# Altium schematic symbol library smoothieboard-5driver.SCHLIB: 81 symbols
Pins are listed as number, name and electrical type; pins without a type are passive.

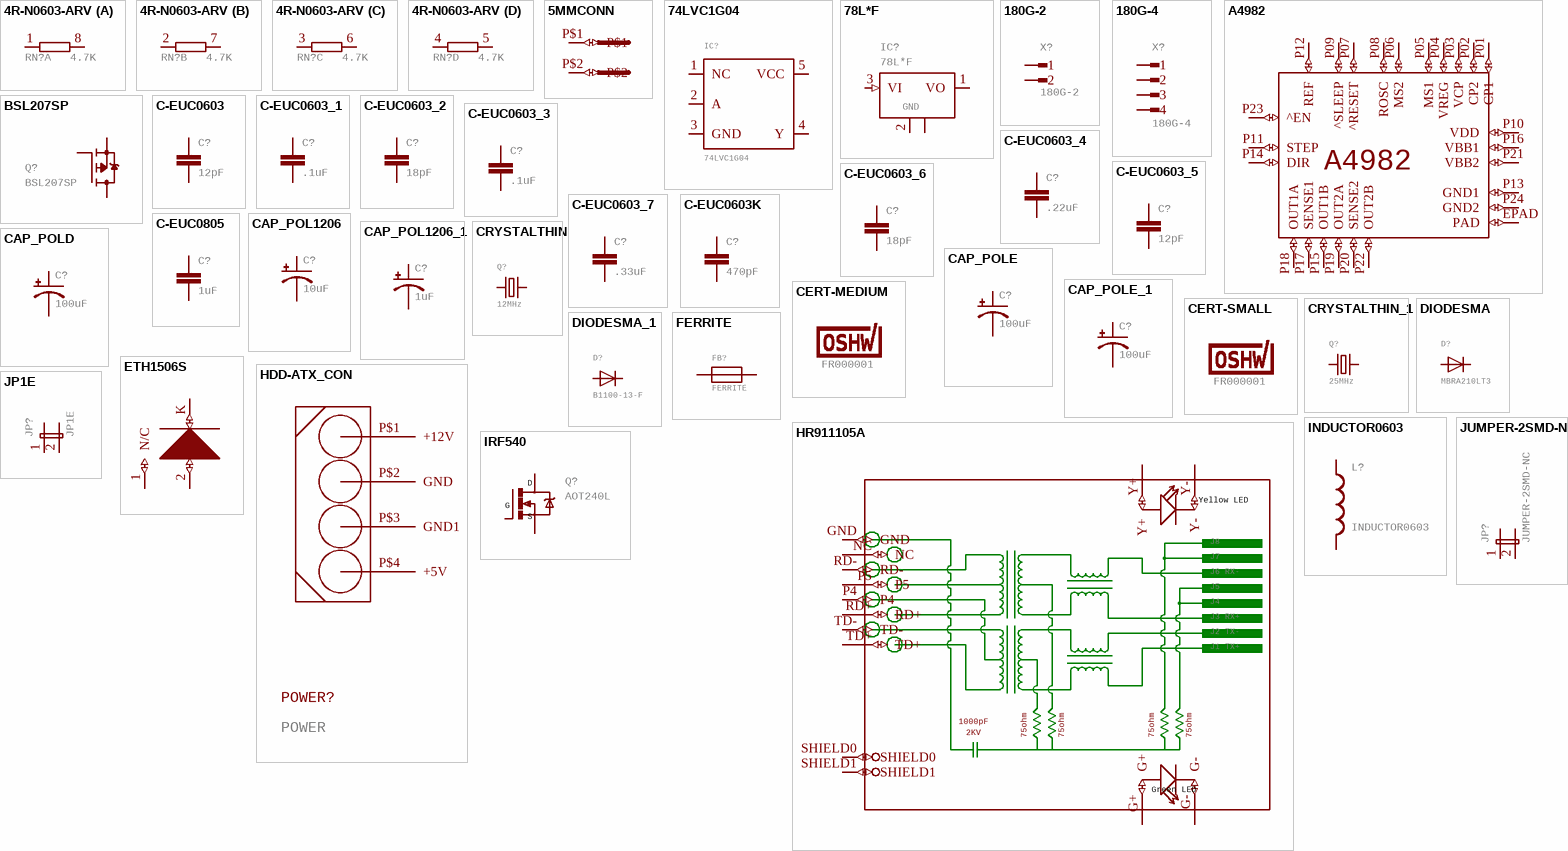
[diagram p0: symbols 4R-N0603-ARV to JUMPER-2SMD-NC]

## 4R-N0603-ARV
designator RN?, comment 4.7K
Array Chip Resistor   Source: RS Component / Phycomp; GateName_1: A; SymbolName_1: R1NV; GateName_2: B; GateName_3: C; GateName_4: D; DeviceName: 0603-ARV; DeviceSetName: 4R-N; SymbolName_2: R1NV; SymbolName_3: R1NV; SymbolName_4: R1NV; LibraryName: resistor-dil; MF: MF; MPN: MPN; OC_FARNELL: unknown; OC_NEWARK: unknown
footprint 0603-ARV
part A pins: 1, 8 2
part B pins: 2 1, 7 2
part C pins: 3 1, 6 2
part D pins: 4 1, 5 2

## 5MMCONN
designator U$?  (value not drawn)
GateName_1: G$1; SymbolName_1: JUMPER; LibraryName: eric_sorensen; DeviceSetName: 5MMCONN
footprint 1715250000
pins: P$1 (io), P$2 (io)

## 74LVC1G04
designator IC?
74LVC1G04 - Single Inverter Gate    SOT23-5 SN74LVC1G04DBVR - Digikey: 296-11599-1-ND; GateName_1: G$1; SymbolName_1: 74LVC1G04; LibraryName: microbuilder; DeviceSetName: 74LVC1G04
footprint SOT23-5
pins: 1 NC, 2 A (io), 3 GND (power), 4 Y (io), 5 VCC (power)

## 78L*F
designator IC?
POSITOIV-VOLTAGE REGULATORS   Output up to 100 mASource: http://focus.ti.com/lit/ds/symlink/ua78l05.pdf; GateName_1: G$1; SymbolName_1: 78XX2GND; DeviceName: F; DeviceSetName: 78L*; LibraryName: linear; GND: GND
footprint SOT89
pins: 1 VO, 2 GND, 2@1 GND, 3 VI (in)

## 180G-2
designator X?
WEIDMUELLER CLAMP CONNECTOR; GateName_1: G$1; SymbolName_1: MALE-2; LibraryName: con-weidmueller-sl35; DeviceSetName: 180G-2; MF: MF; MPN: MPN; OC_FARNELL: unknown; OC_NEWARK: unknown
footprint 180G-2
pins: 1, 2

## 180G-4
designator X?
WEIDMUELLER CLAMP CONNECTOR; GateName_1: G$1; SymbolName_1: MALE-4; LibraryName: con-weidmueller-sl35; DeviceSetName: 180G-4; MF: MF; MPN: MPN; OC_FARNELL: unknown; OC_NEWARK: unknown
footprint 180G-4
pins: 1, 2, 3, 4

## A4982
designator IC?, comment A5984  (value not drawn)
GateName_1: G$1; SymbolName_1: A4982; LibraryName: A4982; DeviceSetName: A4982; A4982: A4982
footprint ETSSOP24
pins: EPAD PAD (io), P01 CP1 (io), P02 CP2 (io), P03 VCP (io), P04 VREG (io), P05 MS1 (io), P06 MS2 (io), P07 ^RESET (io), P08 ROSC (io), P09 ^SLEEP (io), P10 VDD (io), P11 STEP (io), P12 REF (io), P13 GND1 (io), P14 DIR (io), P15 OUT1B (io), P16 VBB1 (io), P17 SENSE1 (io), P18 OUT1A (io), P19 OUT2A (io), P20 SENSE2 (io), P21 VBB2 (io), P22 OUT2B (io), P23 ^EN (io), P24 GND2 (io)

## BSL207SP
designator Q?
OptiMOS(R)-P Small-Signal-Transistor P-Channel, Enhancement mode, Super Logic Level (2.5 V rated)   Source: http://www.infineon.com/upload/Document/BSL207SP_Rev2.01.pdf; GateName_1: G$1; SymbolName_1: P-MOSFET; LibraryName: transistor-fet; DeviceSetName: BSL207SP
footprint SC74_INFINEON
pins: 1 2 5 6 D, 3 G, 4 S

## C-EUC0603
designator C?, comment 12pF
CAPACITOR, European symbol; GateName_1: G$1; SymbolName_1: C-EU; DeviceName: C0603; LibraryName: rcl; DeviceSetName: C-EU
footprint C0603
pins: 1, 2

## C-EUC0603_1
designator C?, comment .1uF
CAPACITOR, European symbol; GateName_1: G$1; SymbolName_1: C-EU; DeviceName: C0603; LibraryName: rcl; DeviceSetName: C-EU
footprint C0603
pins: 1, 2

## C-EUC0603_2
designator C?, comment 18pF
CAPACITOR, European symbol; GateName_1: G$1; SymbolName_1: C-EU; DeviceName: C0603; LibraryName: rcl; DeviceSetName: C-EU
footprint C0603
pins: 1, 2

## C-EUC0603_3
designator C?, comment .1uF
CAPACITOR, European symbol; GateName_1: G$1; SymbolName_1: C-EU; DeviceName: C0603; LibraryName: resistor; DeviceSetName: C-EU
footprint C0603
pins: 1, 2

## C-EUC0603_4
designator C?, comment .22uF
CAPACITOR, European symbol; GateName_1: G$1; SymbolName_1: C-EU; DeviceName: C0603; LibraryName: rcl; DeviceSetName: C-EU
footprint C0603
pins: 1, 2

## C-EUC0603_5
designator C?, comment 12pF
CAPACITOR, European symbol; GateName_1: G$1; SymbolName_1: C-EU; DeviceName: C0603; LibraryName: resistor; DeviceSetName: C-EU
footprint C0603
pins: 1, 2

## C-EUC0603_6
designator C?, comment 18pF
CAPACITOR, European symbol; GateName_1: G$1; SymbolName_1: C-EU; DeviceName: C0603; LibraryName: resistor; DeviceSetName: C-EU
footprint C0603
pins: 1, 2

## C-EUC0603_7
designator C?, comment .33uF
CAPACITOR, European symbol; GateName_1: G$1; SymbolName_1: C-EU; DeviceName: C0603; LibraryName: rcl; DeviceSetName: C-EU
footprint C0603
pins: 1, 2

## C-EUC0603K
designator C?, comment 470pF
CAPACITOR, European symbol; GateName_1: G$1; SymbolName_1: C-EU; DeviceName: C0603K; LibraryName: resistor; DeviceSetName: C-EU
footprint C0603K
pins: 1, 2

## C-EUC0805
designator C?, comment 1uF
CAPACITOR, European symbol; GateName_1: G$1; SymbolName_1: C-EU; DeviceName: C0805; LibraryName: resistor; DeviceSetName: C-EU
footprint C0805
pins: 1, 2

## CAP_POL1206
designator C?, comment 10uF
Capacitor PolarizedThese are standard SMD and PTH capacitors. Normally 10uF, 47uF, and 100uF in electrolytic and tantalum varieties. Always verify the external diameter of the through hole cap, it varies with capacity, voltage, and manufacturer. The EIA devices should be standard.; GateName_1: G$1; SymbolName_1: CAP_POL; DeviceName: 1206; LibraryName: SparkFun; DeviceSetName: CAP_POL
footprint EIA3216
pins: A +, C -

## CAP_POL1206_1
designator C?, comment 1uF
Capacitor PolarizedThese are standard SMD and PTH capacitors. Normally 10uF, 47uF, and 100uF in electrolytic and tantalum varieties. Always verify the external diameter of the through hole cap, it varies with capacity, voltage, and manufacturer. The EIA devices should be standard.; GateName_1: G$1; SymbolName_1: CAP_POL; DeviceName: 1206; LibraryName: SparkFun; DeviceSetName: CAP_POL
footprint EIA3216
pins: A +, C -

## CAP_POLD
designator C?, comment 100uF
Capacitor PolarizedThese are standard SMD and PTH capacitors. Normally 10uF, 47uF, and 100uF in electrolytic and tantalum varieties. Always verify the external diameter of the through hole cap, it varies with capacity, voltage, and manufacturer. The EIA devices should be standard.; GateName_1: G$1; SymbolName_1: CAP_POL; DeviceName: D; LibraryName: SparkFun-Capacitors; DeviceSetName: CAP_POL
footprint PANASONIC_D
pins: +, -

## CAP_POLE
designator C?, comment 100uF
Capacitor PolarizedThese are standard SMD and PTH capacitors. Normally 10uF, 47uF, and 100uF in electrolytic and tantalum varieties. Always verify the external diameter of the through hole cap, it varies with capacity, voltage, and manufacturer. The EIA devices should be standard.; GateName_1: G$1; SymbolName_1: CAP_POL; DeviceName: E; LibraryName: SparkFun; DeviceSetName: CAP_POL
footprint PANASONIC_E
pins: +, -

## CAP_POLE_1
designator C?, comment 100uF
Capacitor PolarizedThese are standard SMD and PTH capacitors. Normally 10uF, 47uF, and 100uF in electrolytic and tantalum varieties. Always verify the external diameter of the through hole cap, it varies with capacity, voltage, and manufacturer. The EIA devices should be standard.; GateName_1: G$1; SymbolName_1: CAP_POL; DeviceName: E; LibraryName: SparkFun-Capacitors; DeviceSetName: CAP_POL
footprint PANASONIC_E
pins: +, -

## CERT-MEDIUM
designator U$?, comment FR000001
GateName_1: G$1; SymbolName_1: CERT; DeviceName: -MEDIUM; LibraryName: OSHWA; DeviceSetName: CERT
footprint CERT-MED-SILK

## CERT-SMALL
designator U$?, comment FR000001
GateName_1: G$1; SymbolName_1: CERT; DeviceName: -SMALL; LibraryName: OSHWA; DeviceSetName: CERT
footprint CERT-SMALL-SILK

## CRYSTALTHIN
designator Q?, comment 12MHz
Crystals   HC49UP - Surface Mount Crystal  4.0MHz 18pF +/-30ppm Surface Mount Crystal [Digikey: 535-9857-1-ND]  12.0 MHz Surface Mount Crystal [Digikey: 535-9869-6-ND]  25.0 MHz Surface Mount Crystal [Digikey: 535-9078-1-ND]       3.2 x 2.5mm - MEMs SMT Crystal  12.0 MHz 8pF 15ppm 3.2 x 2.5mm Crystal [Digikey: -10-70Â°C: 644-1047-1-ND -40-125Â°C: 644-1128-1-ND]  16.0 MHz 8pF 15ppm 3.2 x 2.5mm Crystal [Digikey: -10-70Â°C: 644-1049-1-ND -40-125Â°C: 644-1129-2-ND]  16.0 MHz 10pF 10ppm 3.2 x 2.5mm Crystal [Digikey: 644-1100-1-ND]  27.12 MHz 18pF 30ppm 3.2 x 2.5mm Crystal [Digikey: 887-1424-1-ND]  27.12MHz 10pF 10ppm 3.2 x 2.5mm Crystal [Digikey: 887-1329-1-ND]       4.9 x 1.8mm - MEMs SMT Crystal  32.768 KHz 12.5pF 20ppm 4.9 x 1.8mm Crystal [Digikey: SE2415CT-ND]       Cylinder 32.768KHz Cylinder Crystal; GateName_1: G$1; DeviceName: THIN; SymbolName_1: CRYSTAL; LibraryName: microbuilder; DeviceSetName: CRYSTAL
footprint CRYSTAL_3.2X2.5
pins: 1, 2

## CRYSTALTHIN_1
designator Q?, comment 25MHz
Crystals   HC49UP - Surface Mount Crystal  4.0MHz 18pF +/-30ppm Surface Mount Crystal [Digikey: 535-9857-1-ND]  12.0 MHz Surface Mount Crystal [Digikey: 535-9869-6-ND]  25.0 MHz Surface Mount Crystal [Digikey: 535-9078-1-ND]       3.2 x 2.5mm - MEMs SMT Crystal  12.0 MHz 8pF 15ppm 3.2 x 2.5mm Crystal [Digikey: -10-70Â°C: 644-1047-1-ND -40-125Â°C: 644-1128-1-ND]  16.0 MHz 8pF 15ppm 3.2 x 2.5mm Crystal [Digikey: -10-70Â°C: 644-1049-1-ND -40-125Â°C: 644-1129-2-ND]  16.0 MHz 10pF 10ppm 3.2 x 2.5mm Crystal [Digikey: 644-1100-1-ND]  27.12 MHz 18pF 30ppm 3.2 x 2.5mm Crystal [Digikey: 887-1424-1-ND]  27.12MHz 10pF 10ppm 3.2 x 2.5mm Crystal [Digikey: 887-1329-1-ND]       4.9 x 1.8mm - MEMs SMT Crystal  32.768 KHz 12.5pF 20ppm 4.9 x 1.8mm Crystal [Digikey: SE2415CT-ND]       Cylinder 32.768KHz Cylinder Crystal; GateName_1: G$1; DeviceName: THIN; SymbolName_1: CRYSTAL; LibraryName: microbuilder; DeviceSetName: CRYSTAL
footprint CRYSTAL_3.2X2.5
pins: 1, 2

## DIODESMA
designator D?, comment MBRA210LT3
Diode   SMADIODE - SMA Surface Mount Package  20V 1A Schottky Diode Digikey (500mV @ 1A, 500uA Vr @ 20V): 641-1014-6-ND  10V 2A Schottky Diode Digikey (350mV @ 2A, 700uA Vr @ 10V): MBRA210LT3    SOD-123 30V 200mA (800mV Vf, 2uA Vr @ 25V) Schottky Diode (very fast switching for boost, etc.) - Digikey: BAT54T1GOSTR-ND  30V 500mA (430mV Vf, 130uA Vr @ 30V) Schottky Diode - Digikey: B0530W-FDICT-ND  MBR120 1A 20V (0.34Vf) Schottky Diode - Digikey: MBR120VLSFT1GOSCT-ND    SOD-323 10V 570mA (380mV Vf, 3ns) Schottky Diode - Digikey: ZLLS410CT-ND  1N4148WS - 75V 150mA (1V Vf @ 10mA, 4ns) Simple Diode - Digikey: 1N4148WSFSCT-ND, Mouser: 512-1N4148WS    SOD-523 BAT54 30V 200mA Schottky (0.8 Vf @ 100mA, 5ns) - Digikey: BAT54XV2CT-ND  30V 30mA Schottky Diode (RB751S-40TE61) - Digikey: RB751S-40TE61CT-ND    SOT23-R/W - SOT23 Package (R = Solder Paste/Reflow Ovens, W = Hand-Soldering)  BAT54Film 40V 300mA - Digikey: 497-7162-1-ND    DO-1N4148 Through Hole Small Current Diode (any model); GateName_1: G$1; SymbolName_1: DIODE; DeviceName: SMA; LibraryName: microbuilder; DeviceSetName: DIODE
footprint SMADIODE
pins: A, C

## DIODESMA_1
designator D?, comment B1100-13-F
Diode   SMADIODE - SMA Surface Mount Package  20V 1A Schottky Diode Digikey (500mV @ 1A, 500uA Vr @ 20V): 641-1014-6-ND  10V 2A Schottky Diode Digikey (350mV @ 2A, 700uA Vr @ 10V): MBRA210LT3    SOD-123 30V 200mA (800mV Vf, 2uA Vr @ 25V) Schottky Diode (very fast switching for boost, etc.) - Digikey: BAT54T1GOSTR-ND  30V 500mA (430mV Vf, 130uA Vr @ 30V) Schottky Diode - Digikey: B0530W-FDICT-ND  MBR120 1A 20V (0.34Vf) Schottky Diode - Digikey: MBR120VLSFT1GOSCT-ND    SOD-323 10V 570mA (380mV Vf, 3ns) Schottky Diode - Digikey: ZLLS410CT-ND  1N4148WS - 75V 150mA (1V Vf @ 10mA, 4ns) Simple Diode - Digikey: 1N4148WSFSCT-ND, Mouser: 512-1N4148WS    SOD-523 BAT54 30V 200mA Schottky (0.8 Vf @ 100mA, 5ns) - Digikey: BAT54XV2CT-ND  30V 30mA Schottky Diode (RB751S-40TE61) - Digikey: RB751S-40TE61CT-ND    SOT23-R/W - SOT23 Package (R = Solder Paste/Reflow Ovens, W = Hand-Soldering)  BAT54Film 40V 300mA - Digikey: 497-7162-1-ND    DO-1N4148 Through Hole Small Current Diode (any model); GateName_1: G$1; SymbolName_1: DIODE; DeviceName: SMA; LibraryName: microbuilder; DeviceSetName: DIODE
footprint SMADIODE
pins: A, C

## ETH1506S
designator D?, comment VS-25CTQ045S  (value not drawn)
ETH1506S     Package : TO-263AB (D2PAK), TO-262AA  IF(AV) : 15 A VR : 600 V Hyperfast Rectifier, 15 A FRED Pt Diode variation Single die; GateName_1: G$1; SymbolName_1: ETH1506S; LibraryName: Geos; DeviceSetName: ETH1506S
footprint TO263AB
pins: 1 N/C (io), 2 A (io), K (io)

## FERRITE
designator FB?
Ferrite Bead   0603 MMZ1608B121C - 120 Ohm, 600mA Ferrite Chip - Digikey: 445-2164-1-ND  BK1608HW121-T - 120 Ohm, 600mA Ferrite Chip - Digikey: 587-1876-2-ND; GateName_1: G$1; SymbolName_1: FERRITE; LibraryName: microbuilder; DeviceSetName: FERRITE
footprint 0603
pins: 1 P$1 (io), 2 P$2 (io)

## HDD-ATX_CON
designator POWER?, comment POWER
ATX HDD Connector 4 pin Molex8981 Connector; GateName_1: G$1; SymbolName_1: ATX_HDD; DeviceSetName: HDD-ATX_CON; J: ATX-HDD; LibraryName: Geos
footprint MOLEX8981
pins: P$1 +12V (power), P$2 GND (power), P$3 GND1 (power), P$4 +5V (power)

## HR911105A
designator RJ?  J6RX-: J6 RX-  J3RX+: J3 RX+  J2TX-: J2 TX-  J1TX+: J1 TX+  YellowLED: Yellow LED  GreenLED: Green LED  (hidden comment: HR911105A)
SOC006; GateName_1: G$1; SymbolName_1: HR911105A; LibraryName: Itead_BP_110825.lbr; DeviceSetName: HR911105A; J8: J8; J7: J7; J5: J5; J4: J4; 75ohm: 75ohm; 1000pF: 1000pF; 2KV: 2KV
footprint HR911105A
pins: G+ (io), G- (io), GND (io), NC (io), P4 (io), P5 (io), RD+ (io), RD- (io), SHIELD0 (io), SHIELD1 (io), TD+ (io), TD- (io), Y+ (io), Y- (io)

## INDUCTOR0603
designator L?
InductorsBasic Inductor/Choke - 0603 and 1206. Footprints are not proven and vary greatly between part numbers.; GateName_1: G$1; DeviceName: 0603; SymbolName_1: INDUCTOR; LibraryName: SparkFun; DeviceSetName: INDUCTOR
footprint 0603
pins: 1, 2

## IRF540
designator Q?, comment AOT240L
HEXFET Power MOSFET; GateName_1: G$1; SymbolName_1: MFNS; DeviceSetName: IRF540; LibraryName: transistor-power; D: D; S: S; G: G
footprint TO220BV
pins: D, G, S

## JP1E
designator JP?
JUMPER; GateName_1: A; SymbolName_1: JP2E; LibraryName: jumper; DeviceSetName: JP1E
footprint JP1
pins: 1, 2

## JUMPER-2SMD-NC
designator JP?
JumperBasic 0.1" spaced jumper. Use with breakaway headers.; GateName_1: A; DeviceName: SMD-NC; SymbolName_1: JUMPER-2; LibraryName: SparkFun; DeviceSetName: JUMPER-2
footprint SJ_2S
pins: 1, 2

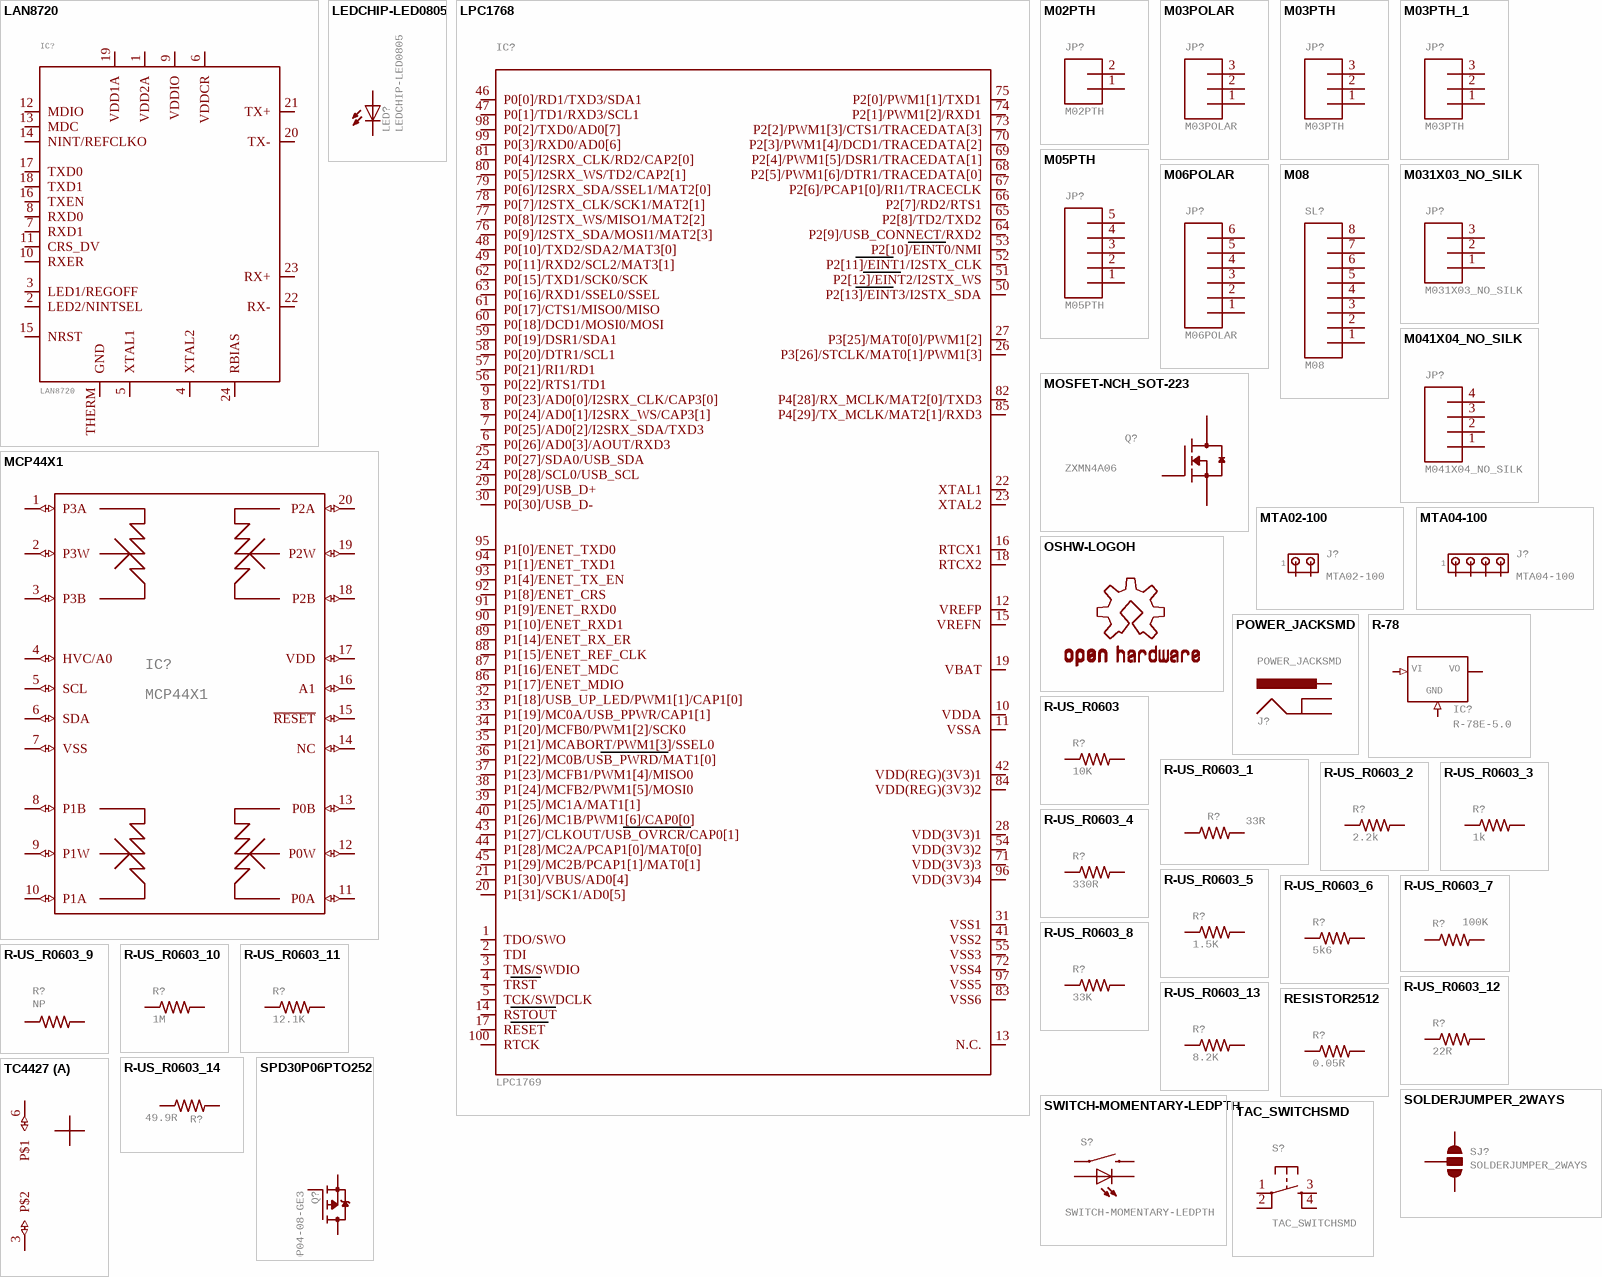
[diagram p1: symbols LAN8720 to TC4427]

## LAN8720
designator IC?
LAN8720A 10/100 Ethernet PHY   Mouser: 886-LAN8720AI-CP; GateName_1: G$1; SymbolName_1: LAN8720; LibraryName: microbuilder; DeviceSetName: LAN8720
footprint QFN24_4MM
pins: 1 VDD2A (io), 2 LED2/NINTSEL (io), 3 LED1/REGOFF (io), 4 XTAL2 (io), 5 XTAL1 (io), 6 VDDCR (io), 7 RXD1 (io), 8 RXD0 (io), 9 VDDIO (io), 10 RXER (io), 11 CRS_DV (io), 12 MDIO (io), 13 MDC (io), 14 NINT/REFCLKO (io), 15 NRST (io), 16 TXEN (io), 17 TXD0 (io), 18 TXD1 (io), 19 VDD1A (io), 20 TX- (io), 21 TX+ (io), 22 RX- (io), 23 RX+ (io), 24 RBIAS (io), THERM GND (io)

## LEDCHIP-LED0805
designator LED?
LED   OSRAM: - CHIPLED LG R971, LG N971, LY N971, LG Q971, LY Q971, LO R971, LY R971 LH N974, LH R974 LS Q976, LO Q976, LY Q976 LO Q996 - Hyper CHIPLED LW Q18S LB Q993, LB Q99A, LB R99A - SideLED LS A670, LO A670, LY A670, LG A670, LP A670 LB A673, LV A673, LT A673, LW A673 LH A674 LY A675 LS A676, LA A676, LO A676, LY A676, LW A676 LS A679, LY A679, LG A679 -  Hyper Micro SIDELEDÂ® LS Y876, LA Y876, LO Y876, LY Y876 LT Y87S - SmartLED LW L88C, LW L88S LB L89C, LB L89S, LG L890 LS L89K, LO L89K, LY L89K LS L896, LA L896, LO L896, LY L896 - TOPLED LS T670, LO T670, LY T670, LG T670, LP T670 LSG T670, LSP T670, LSY T670, LOP T670, LYG T670 LG T671, LOG T671, LSG T671 LB T673, LV T673, LT T673, LW T673 LH T674 LS T676, LA T676, LO T676, LY T676, LB T676, LH T676, LSB T676, LW T676 LB T67C, LV T67C, LT T67C, LS T67K, LO T67K, LY T67K, LW E67C LS E67B, LA E67B, LO E67B, LY E67B, LB E67C, LV E67C, LT E67C LW T67C LS T679, LY T679, LG T679 LS T770, LO T770, LY T770, LG T770, LP T770 LB T773, LV T773, LT T773, LW T773 LH T774 LS E675, LA E675, LY E675, LS T675 LS T776, LA T776, LO T776, LY T776, LB T776 LHGB T686 LT T68C, LB T68C - Hyper Mini TOPLEDÂ® LB M676 - Mini TOPLED SantanaÂ® LG M470 LS M47K, LO M47K, LY M47K    Source: http://www.osram.convergy.de   LUXEON: - LUMILEDÂ® LXK2-PW12-R00, LXK2-PW12-S00, LXK2-PW14-U00, LXK2-PW14-V00 LXK2-PM12-R00, LXK2-PM12-S00, LXK2-PM14-U00 LXK2-PE12-Q00, LXK2-PE12-R00, LXK2-PE12-S00, LXK2-PE14-T00, LXK2-PE14-U00 LXK2-PB12-K00, LXK2-PB12-L00, LXK2-PB12-M00, LXK2-PB14-N00, LXK2-PB14-P00, LXK2-PB14-Q00 LXK2-PR12-L00, LXK2-PR12-M00, LXK2-PR14-Q00, LXK2-PR14-R00 LXK2-PD12-Q00, LXK2-PD12-R00, LXK2-PD12-S00 LXK2-PH12-R00, LXK2-PH12-S00 LXK2-PL12-P00, LXK2-PL12-Q00, LXK2-PL12-R00    Source: www.luxeon.com   KINGBRIGHT:   KA-3528ASYC Source: www.kingbright.com; GateName_1: G$1; SymbolName_1: LED; DeviceName: CHIP-LED0805; LibraryName: led; DeviceSetName: LED
footprint CHIP-LED0805
pins: A, C

## LPC1768
designator IC?, comment LPC1769
LPC1768    100 MHz 32-bit ARM Cortex-M3 based microcontroller featuring a high level of integration and low power consumption. 512 kB Flash, 64 kB SRAM, USB Device/Host/OTG, Ethernet, CAN, I2S, 10-bit DAC    Digikey: 568-4796-ND; GateName_1: G$1; SymbolName_1: LPC1768_QFP; LibraryName: microbuilder; DeviceSetName: LPC1768
footprint LQFP100
pins: 1 TDO/SWO (io), 2 TDI (io), 3 TMS/SWDIO (io), 4 TRST (io), 5 TCK/SWDCLK (io), 6 P0[26]/AD0[3]/AOUT/RXD3 (io), 7 P0[25]/AD0[2]/I2SRX_SDA/TXD3 (io), 8 P0[24]/AD0[1]/I2SRX_WS/CAP3[1] (io), 9 P0[23]/AD0[0]/I2SRX_CLK/CAP3[0] (io), 10 VDDA (io), 11 VSSA (io), 12 VREFP (io), 13 N.C. (io), 14 RSTOUT (io), 15 VREFN (io), 16 RTCX1 (io), 17 RESET (io), 18 RTCX2 (io), 19 VBAT (io), 20 P1[31]/SCK1/AD0[5] (io), 21 P1[30]/VBUS/AD0[4] (io), 22 XTAL1 (io), 23 XTAL2 (io), 24 P0[28]/SCL0/USB_SCL (io), 25 P0[27]/SDA0/USB_SDA (io), 26 P3[26]/STCLK/MAT0[1]/PWM1[3] (io), 27 P3[25]/MAT0[0]/PWM1[2] (io), 28 VDD(3V3)1 (io), 29 P0[29]/USB_D+ (io), 30 P0[30]/USB_D- (io), 31 VSS1 (io), 32 P1[18]/USB_UP_LED/PWM1[1]/CAP1[0] (io), 33 P1[19]/MC0A/USB_PPWR/CAP1[1] (io), 34 P1[20]/MCFB0/PWM1[2]/SCK0 (io), 35 P1[21]/MCABORT/PWM1[3]/SSEL0 (io), 36 P1[22]/MC0B/USB_PWRD/MAT1[0] (io), 37 P1[23]/MCFB1/PWM1[4]/MISO0 (io), 38 P1[24]/MCFB2/PWM1[5]/MOSI0 (io), 39 P1[25]/MC1A/MAT1[1] (io), 40 P1[26]/MC1B/PWM1[6]/CAP0[0] (io), 41 VSS2 (io), 42 VDD(REG)(3V3)1 (io), 43 P1[27]/CLKOUT/USB_OVRCR/CAP0[1] (io), 44 P1[28]/MC2A/PCAP1[0]/MAT0[0] (io), 45 P1[29]/MC2B/PCAP1[1]/MAT0[1] (io), 46 P0[0]/RD1/TXD3/SDA1 (io), 47 P0[1]/TD1/RXD3/SCL1 (io), 48 P0[10]/TXD2/SDA2/MAT3[0] (io), 49 P0[11]/RXD2/SCL2/MAT3[1] (io), 50 P2[13]/EINT3/I2STX_SDA (io), 51 P2[12]/EINT2/I2STX_WS (io), 52 P2[11]/EINT1/I2STX_CLK (io), 53 P2[10]/EINT0/NMI (io), 54 VDD(3V3)2 (io), 55 VSS3 (io), 56 P0[22]/RTS1/TD1 (io), 57 P0[21]/RI1/RD1 (io), 58 P0[20]/DTR1/SCL1 (io), 59 P0[19]/DSR1/SDA1 (io), 60 P0[18]/DCD1/MOSI0/MOSI (io), 61 P0[17]/CTS1/MISO0/MISO (io), 62 P0[15]/TXD1/SCK0/SCK (io), 63 P0[16]/RXD1/SSEL0/SSEL (io), 64 P2[9]/USB_CONNECT/RXD2 (io), 65 P2[8]/TD2/TXD2 (io), 66 P2[7]/RD2/RTS1 (io), 67 P2[6]/PCAP1[0]/RI1/TRACECLK (io), 68 P2[5]/PWM1[6]/DTR1/TRACEDATA[0] (io), 69 P2[4]/PWM1[5]/DSR1/TRACEDATA[1] (io), 70 P2[3]/PWM1[4]/DCD1/TRACEDATA[2] (io), 71 VDD(3V3)3 (io), 72 VSS4 (io), 73 P2[2]/PWM1[3]/CTS1/TRACEDATA[3] (io), 74 P2[1]/PWM1[2]/RXD1 (io), 75 P2[0]/PWM1[1]/TXD1 (io), 76 P0[9]/I2STX_SDA/MOSI1/MAT2[3] (io), 77 P0[8]/I2STX_WS/MISO1/MAT2[2] (io), 78 P0[7]/I2STX_CLK/SCK1/MAT2[1] (io), 79 P0[6]/I2SRX_SDA/SSEL1/MAT2[0] (io), 80 P0[5]/I2SRX_WS/TD2/CAP2[1] (io), 81 P0[4]/I2SRX_CLK/RD2/CAP2[0] (io), 82 P4[28]/RX_MCLK/MAT2[0]/TXD3 (io), 83 VSS6 (io), 84 VDD(REG)(3V3)2 (io), 85 P4[29]/TX_MCLK/MAT2[1]/RXD3 (io), 86 P1[17]/ENET_MDIO (io), 87 P1[16]/ENET_MDC (io), 88 P1[15]/ENET_REF_CLK (io), 89 P1[14]/ENET_RX_ER (io), 90 P1[10]/ENET_RXD1 (io), 91 P1[9]/ENET_RXD0 (io), 92 P1[8]/ENET_CRS (io), 93 P1[4]/ENET_TX_EN (io), 94 P1[1]/ENET_TXD1 (io), 95 P1[0]/ENET_TXD0 (io), 96 VDD(3V3)4 (io), 97 VSS5 (io), 98 P0[2]/TXD0/AD0[7] (io), 99 P0[3]/RXD0/AD0[6] (io), 100 RTCK (io)

## M02PTH
designator JP?
Header 2Standard 2-pin 0.1" header. Use with straight break away headers (SKU : PRT-00116), right angle break away headers (PRT-00553), swiss pins (PRT-00743), machine pins (PRT-00117), and female headers (PRT-00115). Molex polarized connector foot print use with SKU : PRT-08233 with associated crimp pins and housings.; GateName_1: G$1; SymbolName_1: M02; DeviceName: PTH; LibraryName: SparkFun; DeviceSetName: M02
footprint 1X02
pins: 1, 2

## M03POLAR
designator JP?
Header 3Standard 3-pin 0.1" header. Use with straight break away headers (SKU : PRT-00116), right angle break away headers (PRT-00553), swiss pins (PRT-00743), machine pins (PRT-00117), and female headers (PRT-00115). Molex polarized connector foot print use with SKU : PRT-08232 with associated crimp pins and housings.; GateName_1: G$1; SymbolName_1: M03; DeviceName: POLAR; LibraryName: SparkFun; DeviceSetName: M03
footprint MOLEX-1X3
pins: 1, 2, 3

## M03PTH
designator JP?
Header 3Standard 3-pin 0.1" header. Use with straight break away headers (SKU : PRT-00116), right angle break away headers (PRT-00553), swiss pins (PRT-00743), machine pins (PRT-00117), and female headers (PRT-00115). Molex polarized connector foot print use with SKU : PRT-08232 with associated crimp pins and housings.; GateName_1: G$1; SymbolName_1: M03; DeviceName: PTH; LibraryName: SparkFun-Connectors; DeviceSetName: M03
footprint 1X03
pins: 1, 2, 3

## M03PTH_1
designator JP?, comment M03PTH
Header 3Standard 3-pin 0.1" header. Use with straight break away headers (SKU : PRT-00116), right angle break away headers (PRT-00553), swiss pins (PRT-00743), machine pins (PRT-00117), and female headers (PRT-00115). Molex polarized connector foot print use with SKU : PRT-08232 with associated crimp pins and housings.; GateName_1: G$1; SymbolName_1: M03; DeviceName: PTH; LibraryName: SparkFun; DeviceSetName: M03
footprint 1X03
pins: 1, 2, 3

## M05PTH
designator JP?
Header 5Standard 5-pin 0.1" header. Use with straight break away headers (SKU : PRT-00116), right angle break away headers (PRT-00553), swiss pins (PRT-00743), machine pins (PRT-00117), and female headers (PRT-00115). Molex polarized connector foot print use with SKU : PRT-08230 with associated crimp pins and housings.; GateName_1: G$1; SymbolName_1: M05; DeviceName: PTH; LibraryName: SparkFun; DeviceSetName: M05
footprint 1X05
pins: 1, 2, 3, 4, 5

## M06POLAR
designator JP?
Header 6Standard 6-pin 0.1" header. Use with straight break away headers (SKU : PRT-00116), right angle break away headers (PRT-00553), swiss pins (PRT-00743), machine pins (PRT-00117), and female headers (PRT-00115). Molex polarized connector foot print use with SKU : PRT-08094 with associated crimp pins and housings. NOTES ON THE VARIANTS LOCK and LOCK_LONGPADS... This footprint was designed to help hold the alignment of a through-hole component (i.e.  6-pin header) while soldering it into place. You may notice that each hole has been shifted either up or down by 0.005 of an inch from it's more standard position (which is a perfectly straight line). This slight alteration caused the pins (the squares in the middle) to touch the edges of the holes.  Because they are alternating, it causes a "brace" to hold the component in place.  0.005 has proven to be the perfect amount of "off-center" position when using our standard breakaway headers. Although looks a little odd when you look at the bare footprint, once you have a header in there, the alteration is very hard to notice.  Also, if you push a header all the way into place, it is covered up entirely on the bottom side.  This idea of altering the position of holes to aid alignment will be further integrated into the Sparkfun Library for other footprints.  It can help hold any component with 3 or more connection pins.; GateName_1: G$1; SymbolName_1: M06; DeviceName: POLAR; LibraryName: SparkFun; DeviceSetName: M06
footprint MOLEX-1X6
pins: 1, 2, 3, 4, 5, 6

## M08
designator SL?
AMP QUICK CONNECTOR; GateName_1: G$1; SymbolName_1: M08; LibraryName: con-amp-quick; DeviceSetName: M08; MF: MF; MPN: MPN; OC_FARNELL: unknown; OC_NEWARK: unknown
footprint 08P
pins: 1, 2, 3, 4, 5, 6, 7, 8

## M031X03_NO_SILK
designator JP?
Header 3Standard 3-pin 0.1" header. Use with straight break away headers (SKU : PRT-00116), right angle break away headers (PRT-00553), swiss pins (PRT-00743), machine pins (PRT-00117), and female headers (PRT-00115). Molex polarized connector foot print use with SKU : PRT-08232 with associated crimp pins and housings.; GateName_1: G$1; SymbolName_1: M03; DeviceName: 1X03_NO_SILK; LibraryName: SparkFun; DeviceSetName: M03
footprint 1X03_NO_SILK
pins: 1, 2, 3

## M041X04_NO_SILK
designator JP?
Header 4Standard 4-pin 0.1" header. Use with straight break away headers (SKU : PRT-00116), right angle break away headers (PRT-00553), swiss pins (PRT-00743), machine pins (PRT-00117), and female headers (PRT-00115). Molex polarized connector foot print use with SKU : PRT-08231 with associated crimp pins and housings. 1MM SMD Version SKU: PRT-10208; GateName_1: G$1; SymbolName_1: M04; DeviceName: 1X04_NO_SILK; LibraryName: SparkFun; DeviceSetName: M04
footprint 1X04_NO_SILK
pins: 1, 2, 3, 4

## MCP44X1
designator IC?
MCP44x1    MCP4451 -  ? Quad Resistor Network ? I2C Serial Interface Support ? Potentiometer or Rheostat Configuration Options ? Resistor Network Resolution: 7-bit ? 128 Resistors (129 Taps) 8-bit ? 256 Resistors (257 Taps); GateName_1: G$1; SymbolName_1: MCP44X1; LibraryName: Geos; DeviceSetName: MCP44X1
footprint TSSOP20
pins: 1 P3A (io), 2 P3W (io), 3 P3B (io), 4 HVC/A0 (io), 5 SCL (io), 6 SDA (io), 7 VSS (io), 8 P1B (io), 9 P1W (io), 10 P1A (io), 11 P0A (io), 12 P0W (io), 13 P0B (io), 14 NC (io), 15 ~{RESET} (io), 16 A1 (io), 17 VDD (io), 18 P2B (io), 19 P2W (io), 20 P2A (io)

## MOSFET-NCH_SOT-223
designator Q?, comment ZXMN4A06
GateName_1: G$1; SymbolName_1: MOSFET-NCH; DeviceName: SOT-223; DeviceSetName: MOSFET-NCH_; LibraryName: ipc-7351-transistor
footprint SOT230P700X160-4N
pins: 1 G, 3 S, 4 D

## MTA02-100
designator J?
AMP connector; GateName_1: G$1; SymbolName_1: MTA-1_2; LibraryName: con-amp; DeviceSetName: MTA02-100; 1: 1
footprint 10X02MTA
pins: 1, 2

## MTA04-100
designator J?
AMP connector; GateName_1: G$1; SymbolName_1: MTA-1_4; LibraryName: con-amp; DeviceSetName: MTA04-100; 1: 1
footprint 10X04MTA
pins: 1, 2, 3, 4

## OSHW-LOGOH
designator U$?  (value not drawn)
Open Source Hardware Logo This logo indicates the piece of hardware it is found on incorporates a OSHW license and/or adheres to the definition of open source hardware found here: http://freedomdefined.org/OSHW; GateName_1: G$1; DeviceName: H; SymbolName_1: OSHW-LOGO; LibraryName: logxen; DeviceSetName: OSHW-LOGO
footprint OSHW-LOGO-HUGE

## POWER_JACKSMD
designator J?
Power JackThis is the standard 5.5mm barrel jack for power. The PTH is the most common, proven, reliable, footprint. All others are experimental. The Slot footprint only works if the mill layer is transmitted to the PCB fab house so be warned. Spark Fun Electronics SKU : PRT-00119. Mating wall wart : TOL-00298 (and others); GateName_1: G$1; DeviceName: SMD; SymbolName_1: POWERJACK; LibraryName: SparkFun; DeviceSetName: POWER_JACK
footprint POWER_JACK_SMD
pins: GND GNDBREAK (io), P$4 GND (io), VIN0 PWR (io)

## R-78
designator IC?, comment R-78E-5.0
GateName_1: G$1; SymbolName_1: R-78; LibraryName: logxen; DeviceSetName: R-78; GND: GND; VI: VI; VO: VO
footprint R-78
pins: 1 VI (in), 2 GND (in), 3 VO (io)

## R-US_R0603
designator R?, comment 10K
RESISTOR, American symbol; GateName_1: G$1; SymbolName_1: R-US; DeviceName: R0603; DeviceSetName: R-US_; LibraryName: resistor
footprint R0603
pins: 1, 2

## R-US_R0603_1
designator R?, comment 33R
RESISTOR, American symbol; GateName_1: G$1; SymbolName_1: R-US; DeviceName: R0603; DeviceSetName: R-US_; LibraryName: resistor
footprint R0603
pins: 1, 2

## R-US_R0603_2
designator R?, comment 2.2k
RESISTOR, American symbol; GateName_1: G$1; SymbolName_1: R-US; DeviceName: R0603; DeviceSetName: R-US_; LibraryName: resistor
footprint R0603
pins: 1, 2

## R-US_R0603_3
designator R?, comment 1k
RESISTOR, American symbol; GateName_1: G$1; SymbolName_1: R-US; DeviceName: R0603; DeviceSetName: R-US_; LibraryName: resistor
footprint R0603
pins: 1, 2

## R-US_R0603_4
designator R?, comment 330R
RESISTOR, American symbol; GateName_1: G$1; SymbolName_1: R-US; DeviceName: R0603; DeviceSetName: R-US_; LibraryName: resistor
footprint R0603
pins: 1, 2

## R-US_R0603_5
designator R?, comment 1.5K
RESISTOR, American symbol; GateName_1: G$1; SymbolName_1: R-US; DeviceName: R0603; DeviceSetName: R-US_; LibraryName: resistor
footprint R0603
pins: 1, 2

## R-US_R0603_6
designator R?, comment 5k6
RESISTOR, American symbol; GateName_1: G$1; SymbolName_1: R-US; DeviceName: R0603; DeviceSetName: R-US_; LibraryName: resistor
footprint R0603
pins: 1, 2

## R-US_R0603_7
designator R?, comment 100K
RESISTOR, American symbol; GateName_1: G$1; SymbolName_1: R-US; DeviceName: R0603; DeviceSetName: R-US_; LibraryName: resistor
footprint R0603
pins: 1, 2

## R-US_R0603_8
designator R?, comment 33K
RESISTOR, American symbol; GateName_1: G$1; SymbolName_1: R-US; DeviceName: R0603; DeviceSetName: R-US_; LibraryName: resistor
footprint R0603
pins: 1, 2

## R-US_R0603_9
designator R?, comment NP
RESISTOR, American symbol; GateName_1: G$1; SymbolName_1: R-US; DeviceName: R0603; DeviceSetName: R-US_; LibraryName: resistor
footprint R0603
pins: 1, 2

## R-US_R0603_10
designator R?, comment 1M
RESISTOR, American symbol; GateName_1: G$1; SymbolName_1: R-US; DeviceName: R0603; DeviceSetName: R-US_; LibraryName: resistor
footprint R0603
pins: 1, 2

## R-US_R0603_11
designator R?, comment 12.1K
RESISTOR, American symbol; GateName_1: G$1; SymbolName_1: R-US; DeviceName: R0603; DeviceSetName: R-US_; LibraryName: resistor
footprint R0603
pins: 1, 2

## R-US_R0603_12
designator R?, comment 22R
RESISTOR, American symbol; GateName_1: G$1; SymbolName_1: R-US; DeviceName: R0603; DeviceSetName: R-US_; LibraryName: resistor
footprint R0603
pins: 1, 2

## R-US_R0603_13
designator R?, comment 8.2K
RESISTOR, American symbol; GateName_1: G$1; SymbolName_1: R-US; DeviceName: R0603; DeviceSetName: R-US_; LibraryName: resistor
footprint R0603
pins: 1, 2

## R-US_R0603_14
designator R?, comment 49.9R
RESISTOR, American symbol; GateName_1: G$1; SymbolName_1: R-US; DeviceName: R0603; DeviceSetName: R-US_; LibraryName: resistor
footprint R0603
pins: 1, 2

## RESISTOR2512
designator R?, comment 0.05R
ResistorBasic schematic elements and footprints for 0603, 1206, and PTH 1/10th watt (small) resistors.; GateName_1: G$1; DeviceName: 2512; SymbolName_1: RESISTOR; LibraryName: SparkFun; DeviceSetName: RESISTOR
footprint R2512
pins: 1, 2

## SOLDERJUMPER_2WAYS
designator SJ?
Solder Jumper2 way solder jumper; GateName_1: G$1; SymbolName_1: SJ_2; DeviceName: S; LibraryName: SparkFun; DeviceSetName: SOLDERJUMPER_2WAY
footprint SJ_3
pins: 1, 2, 3

## SPD30P06PTO252
designator Q?, comment SUD50P04-08-GE3
SIPMOS(R) Power-Transistor P-Channel, Enhancement mode   Source: http://www.infineon.com/upload/Document/cmc_upload/documents/012/3615/SPD_U30P06P.pdf; GateName_1: G$1; SymbolName_1: P-MOSFET; DeviceName: TO252; DeviceSetName: SPD30P06P; LibraryName: transistor-fet
footprint TO252
pins: 1 G, 2 S, 3 D

## SWITCH-MOMENTARY-LEDPTH
designator S?
GateName_1: G$1; DeviceName: PTH; SymbolName_1: SWITCH-MOMENTARY-LED; LibraryName: Local Library; DeviceSetName: SWITCH-MOMENTARY-LED
footprint TACTILE-PTH-LED-12MM
pins: 2, 4 1, A, C

## TAC_SWITCHSMD
designator S?
Momentary SwitchButton commonly used for reset or general input. Spark Fun Electronics SKU : COM-00097; GateName_1: S; SymbolName_1: SWITCH-MOMENTARY; DeviceName: SMD; LibraryName: SparkFun; DeviceSetName: TAC_SWITCH
footprint TACTILE_SWITCH_SMD
pins: 1, 2, 3, 4

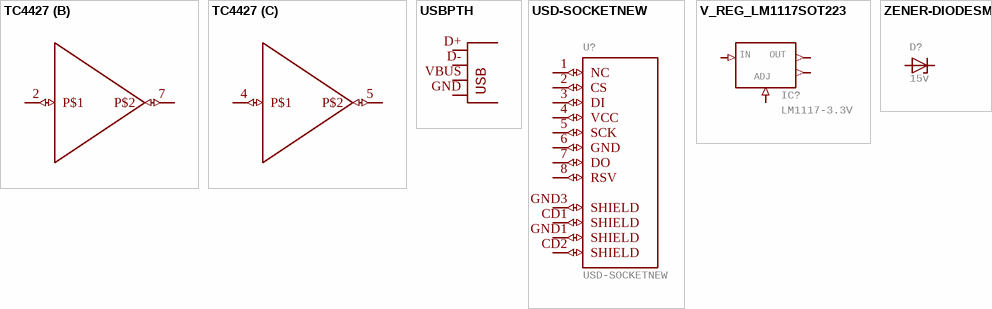
[diagram p2: symbols TC4427 to ZENER-DIODESMB]

## TC4427
designator IC?  (value not drawn)
GateName_1: RAILS; GateName_2: A; SymbolName_2: BUFFER; GateName_3: B; SymbolName_1: RAILS; SymbolName_3: BUFFER; LibraryName: custom_esorensen; DeviceSetName: TC4427
footprint SOIC8
part A pins: 3 P$2 (io), 6 P$1 (io)
part B pins: 2 P$1 (io), 7 P$2 (io)
part C pins: 4 P$1 (io), 5 P$2 (io)

## USBPTH
designator X?  (value not drawn)
USB Connectors   USB-B-PTH is fully proven SKU : PRT-00139    USB-miniB is fully proven SKU : PRT-00587    USB-A-PCB is untested.    USB-A-H is throughly reviewed, but untested. Spark Fun Electronics SKU : PRT-00437    USB-B-SMT is throughly reviewed, but untested. Needs silkscreen touching up.    USB-A-S has not been used/tested    USB-MB-H has not been used/tested; GateName_1: G$1; DeviceName: PTH; SymbolName_1: USB; LibraryName: SparkFun; DeviceSetName: USB; USB: USB
footprint USB-B-PTH
pins: D+ (io), D- (io), GND (io), VBUS (io)

## USD-SOCKETNEW
designator U?
microSD SocketPush-push type uSD socket. Schematic element and footprint production proven. Spark Fun Electronics SKU : PRT-00127. tDoc lines correctly indicate media card edge positions when inserting (unlocked, locked, depressed).; GateName_1: G$1; SymbolName_1: USDCARD; DeviceName: NEW; LibraryName: SparkFun; DeviceSetName: USD-SOCKET
footprint MICRO-SD-SOCKET-PP
pins: 1 NC (io), 2 CS (io), 3 DI (io), 4 VCC (io), 5 SCK (io), 6 GND (io), 7 DO (io), 8 RSV (io), CD1 SHIELD (io), CD2 SHIELD (io), GND1 SHIELD (io), GND3 SHIELD (io)

## V_REG_LM1117SOT223
designator IC?, comment LM1117-3.3V
Voltage Regulator LM1117Standard adjustable voltage regulator but in SMD form. Spark Fun Electronics SKU : COM-00595; GateName_1: G$1; SymbolName_1: 78ADJ; DeviceName: SOT223; DeviceSetName: V_REG_LM1117; LibraryName: SparkFun; ADJ: ADJ; IN: IN; OUT: OUT
footprint SOT223
pins: 1 ADJ (in), 2 OUT (out), 3 IN (in), 4 OUT (out)

## ZENER-DIODESMB
designator D?, comment 15v
Z-Diode; GateName_1: G$1; SymbolName_1: ZD; DeviceName: SMB; DeviceSetName: ZENER-DIODE; LibraryName: diode
footprint SMB
pins: A, C